# Altium integrated library Светодиоды.IntLib: 21 symbols
Pins are listed as number, name and electrical type; pins without a type are passive.

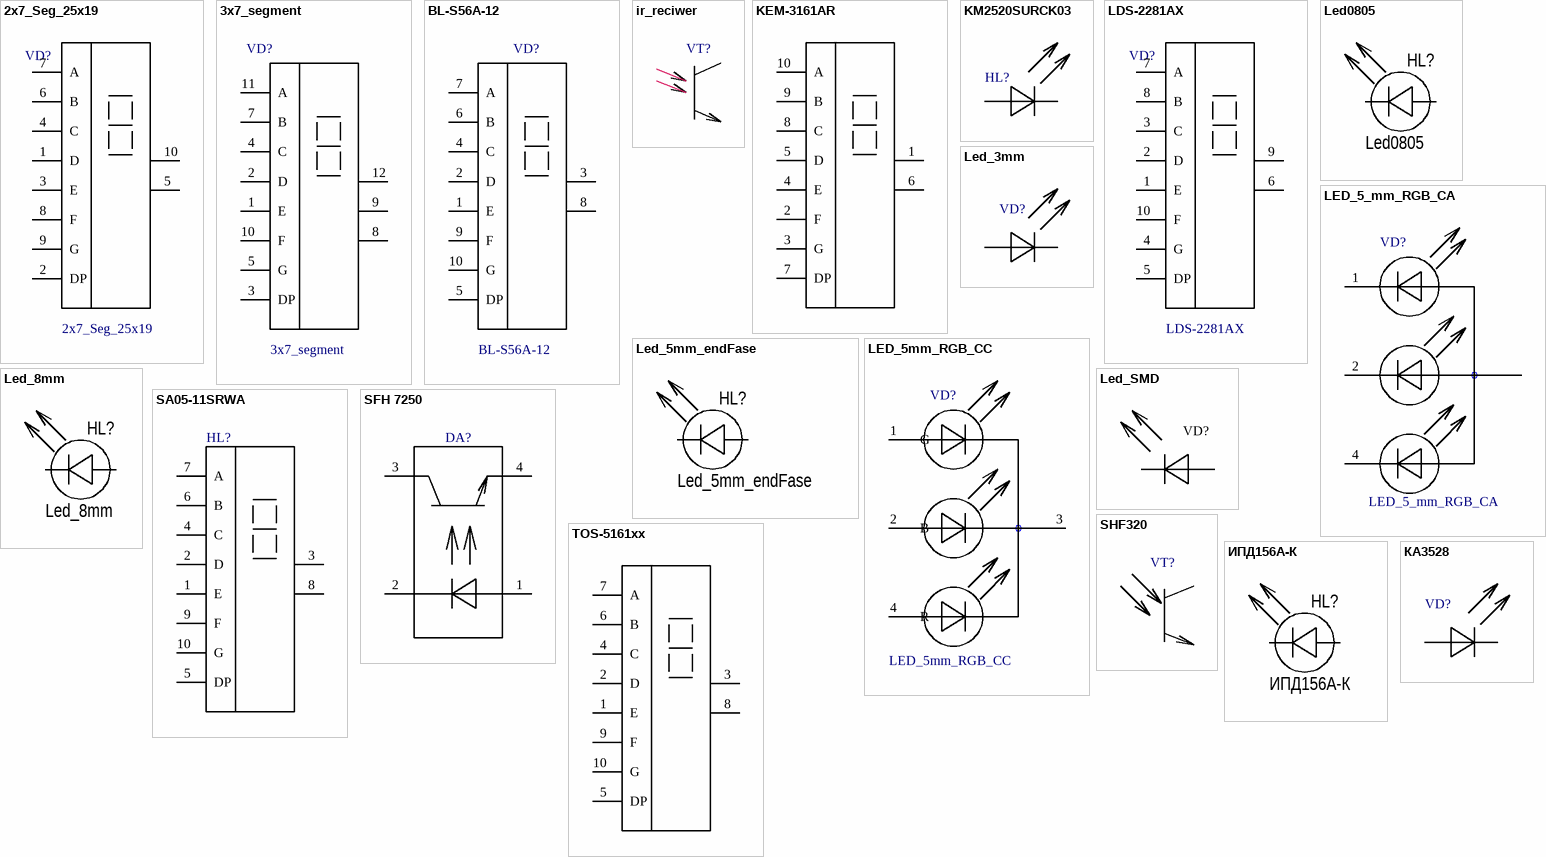
[diagram p0: symbols 2x7_Seg_25x19 to КА3528]

## 2x7_Seg_25x19
designator VD?
footprint 2x7_Seg_25x19
pins: 1 D, 2 DP, 3 E, 4 C, 5 OK2, 6 B, 7 A, 8 F, 9 G, 10 OK1

## 3x7_segment
designator VD?
footprint 3x7_segment
pins: 1 E, 2 D, 3 DP, 4 C, 5 G, 7 B, 8 OK_3, 9 OK_2, 10 F, 11 A, 12 OK_1

## BL-S56A-12
designator VD?
footprint BL-S56x-12
pins: 1 E, 2 D, 3 OK, 4 C, 5 DP, 6 B, 7 A, 8 OK, 9 F, 10 G

## ir_reciwer
designator VT?  (value not drawn)
footprint Led_3mm_transistor
pins: 1 E, 2 C

## KEM-3161AR
designator HL?  (value not drawn)
Rem: *; Package: *; Value: *; Tolerance: *; Power/Voltage: *; TKE: *; ManufacturerPartNumber: *; Manufacturer: *; Quantity: *; Примечание: *
footprint KEM-3161
footprint KEM-3161_thryHole
pins: 1 OK, 2 F, 3 G, 4 E, 5 D, 6 OK, 7 DP, 8 C, 9 B, 10 A

## KM2520SURCK03
designator HL?  (value not drawn)
ManufacturerPartNumber: KM2520SURCK03; Manufacturer: Kingbright; Rem: *; Package: 2520; Value: *; Tolerance: *; Power/Voltage: *; TKE: *; Quantity: *; Примечание: *
footprint LED2520
pins: 1, 2

## LDS-2281AX
designator VD?
footprint LTD-2601G
pins: 1 E, 2 D, 3 C, 4 G, 5 DP, 6 OK2, 7 A, 8 B, 9 OK1, 10 F

## Led0805
designator HL?
footprint ИПД156А-К
footprint LED_8MM
footprint Led0805
pins: 1, 2

## Led_3mm
designator VD?  (value not drawn)
footprint Led_3mm
footprint Led_3mm_thryHole
pins: 1, 2

## LED_5_mm_RGB_CA
designator VD?
footprint LED_5MM_RGB
pins: 1 Green, 2 Blue, 3 Camon, 4 Red

## Led_5mm_endFase
designator HL?
footprint LED_5mm_endFase
pins: 1, 2

## LED_5mm_RGB_CC
designator VD?
footprint LED_5MM_RGB
pins: 1 G, 2 B, 3 2, 4 R

## Led_8mm
designator HL?
footprint ИПД156А-К
footprint LED_8MM
pins: 1, 2

## Led_SMD
designator VD?  (value not drawn)
footprint Led0805
footprint LED0603
footprint LM318B+
pins: 1, 2

## SA05-11SRWA
designator HL?  (value not drawn)
Manufacturer: Kingbright; Value: SA05-11SRWA; Rem: *; Package: *; Tolerance: *; Power/Voltage: *; TKE: *; ManufacturerPartNumber: SA05-11SRWA; Quantity: *; Примечание: *
footprint SA05-11
pins: 1 E, 2 D, 3 OK, 4 C, 5 DP, 6 B, 7 A, 8 OK, 9 F, 10 G

## SFH 7250
designator DA?  (value not drawn)
Manufacturer: Osram; Rem: *; Package: 3528; Value: SFH 7250; Tolerance: *; Power/Voltage: *; TKE: *; ManufacturerPartNumber: SFH 7250; Quantity: *; Примечание: *
footprint LED3528_RGB
pins: 1, 2, 3 C, 4 E

## SHF320
designator VT?  (value not drawn)
ManufacturerPartNumber: SFH 320 FA-Z; Manufacturer: OSRAM; Rem: *; Package: *; Value: *; Tolerance: *; Power/Voltage: *; TKE: *; Quantity: *; Примечание: *
footprint SFH_320
pins: 1 C, 2 E

## TOS-5161xx
designator HL?  (value not drawn)
Rem: *; Package: *; Value: *; Tolerance: *; Power/Voltage: *; TKE: *; ManufacturerPartNumber: *; Manufacturer: *; Quantity: *; Примечание: *
footprint BL-S56x-12
pins: 1 E, 2 D, 3 OK, 4 C, 5 DP, 6 B, 7 A, 8 OK, 9 F, 10 G

## ИПД156А-К
designator HL?
footprint ИПД156А-К
pins: 1, 2

## КА3528
designator VD?  (value not drawn)
Manufacturer: Kingbright; Value: KA-3528EC; Rem: *; Package: 3528; Tolerance: *; Power/Voltage: *; TKE: *; ManufacturerPartNumber: KA-3528EC; Quantity: *; Примечание: *
footprint LED3528
pins: 1, 2

## РЫБА
designator HL?  (value not drawn)
Rem: *; Package: *; Value: *; Tolerance: *; Power/Voltage: *; TKE: *; ManufacturerPartNumber: *; Manufacturer: *; Quantity: *; Примечание: *